# Altium footprint library Schottky Diode SOD323 CENTRAL SEMI_1.PcbLib: 1 footprints
Each footprint in its own frame and in the unit in brackets; x right, y up, seen from the top. Pads: shape width x height; smd on the part's side, far side on the other; paste and mask are expansions set on the pad; w line width, h text height; cw(c..) or ccw(c..) is an arc to the next point about the centre after c.
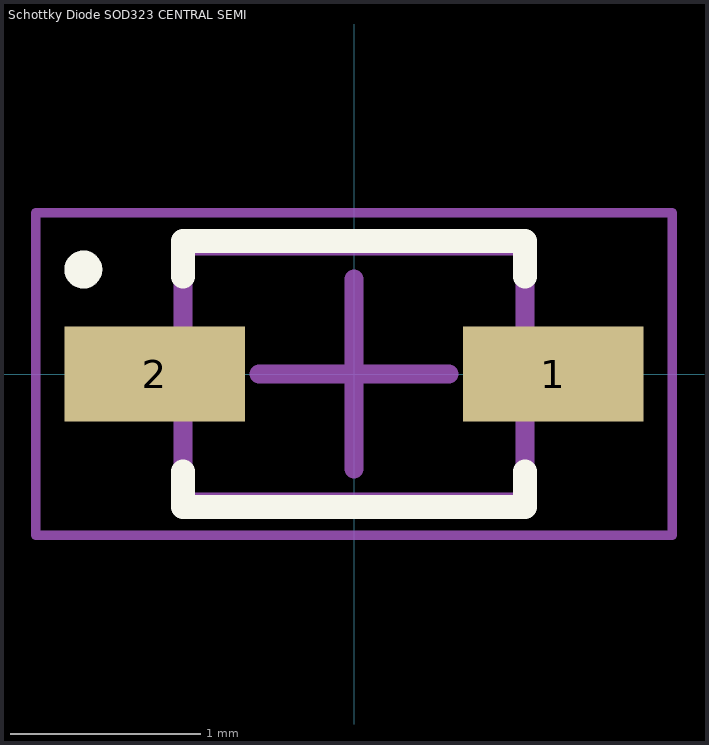
[diagram p0: the footprint, top view; thin cyan lines are the x and y axes]

## Schottky Diode SOD323 CENTRAL SEMI [mm] "SODFL, 2-Leads, Body 1.25x2.50mm, IPC Medium Density"
height 1
pads (2):
  rect 0.95x0.5 smd: 1(1.05,0) 2(-1.05,0)
Top Overlay:
  circle w0.1: c-1.425,0.55 r0.05
  lines w0.127: -0.9,-0.513 -0.9,-0.7 0.9,-0.7 0.9,-0.513 ; -0.9,0.513 -0.9,0.7 0.9,0.7 0.9,0.513
Mechanical 13:
  lines w0.1: -0.9,-0.675 0.9,-0.675 0.9,0.675 -0.9,0.675 -0.9,-0.675
Mechanical 15:
  lines w0.05: -1.675,-0.85 1.675,-0.85 1.675,0.85 -1.675,0.85 -1.675,-0.85
  lines w0.1: -0.5,0 0.5,0 ; 0,-0.5 0,0.5
3D body "Schottky Diode SOD323 CENTRAL SEMI.step": height 1, standoff 0, extent -1.25,-0.675 1.25,0.675